# Altium schematic symbol library ERA-6AEB241V.SchLib: 1 symbol
Pins are listed as number, name and electrical type; pins without a type are passive.

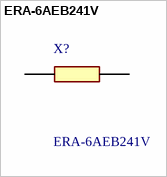
[diagram p0: symbol ERA-6AEB241V]

## ERA-6AEB241V
designator X?
Metal Thin Film Chip Resistor, 0805, 0.125W; Manufacturer_Name: Panasonic; Geometry.Height: 0.6mm; Mouser Part Number: 667-ERA-6AEB241V; Mouser Price/Stock: https://www.mouser.co.uk/ProductDetail/Panasonic/ERA-6AEB241V?qs=m8myXnDJXpXTI%2FAEZkg5ug%3D%3D; Manufacturer_Part_Number: ERA-6AEB241V; Datasheet Link: https://industrial.panasonic.com/cdbs/www-data/pdf/RDM0000/AOA0000C307.pdf
footprint ERA6AEB101V
pins: 1, 2